# Altium schematic symbol library T_CAN_Schlib1.SchLib: 2 symbols
Pins are listed as number, name and electrical type; pins without a type are passive.

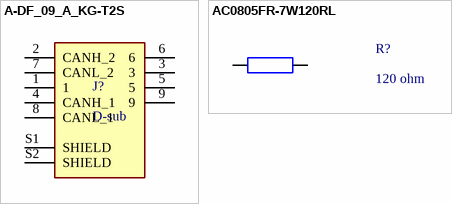
[diagram p0: symbols A-DF_09_A_KG-T2S to AC0805FR-7W120RL]

## A-DF_09_A_KG-T2S
designator J?, comment D-sub
9 Position D-Sub Receptacle, Female Sockets Connector; MF: Assmann WSW; MP: A-DF 09 A/KG-T2S; SnapEDA_Link: https://www.snapeda.com/parts/A-DF%2009%20A/KG-T2S/Assmann+WSW+Components/view-part/?ref=snap; Package: None; Value: *; Check_prices: https://www.snapeda.com/parts/A-DF%2009%20A/KG-T2S/Assmann+WSW+Components/view-part/?ref=eda; ComponentLink1Description: Chipdip link; ComponentLink1URL: https://www.chipdip.ru/product0/8014038088?ysclid=m1h00nzwfi234995937
footprint ASSMANN_A-DF_09_A_KG-T2S
footprint ASSMANN_A-DF_09_A_KG-T2S
pins: 1, 2 CANH_2, 3, 4 CANH_1, 5, 6, 7 CANL_2, 8 CANL_1, 9, S1 SHIELD, S2 SHIELD

## AC0805FR-7W120RL
designator R?, comment 120 ohm
Chip Resistor Automotive Grade Thick Film 0805 120Ohm 1% Paper T/R; Manufacturer: Yageo; Manufacturer Part Number: AC0805FR-7W120RL; Value: 120R; Supplier: Digikey; Supplier Part Number: 13-AC0805FR-7W120RLCT-ND; RoHS: Yes; Category: Chip SMD Resistors; Stock: 9211; Pricing: 1=0,1, 10=0,048, 50=0,0318, 100=0,0269, 500=0,01894, 1000=0,01649 (USD); Case/Package: 339Case; Packaging: 10Packaging; ComponentLink1Description: Chipdip link; ComponentLink1URL: https://www.chipdip.ru/product0/8017642180
footprint R0805
pins: 1, 2